# Altium schematic symbol library TPS73801.Schlib: 1 symbol
Pins are listed as number, name and electrical type; pins without a type are passive.

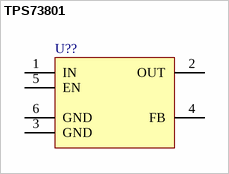
[diagram p0: symbol TPS73801]

## TPS73801
designator U??
pins: 1 IN, 2 OUT, 3 GND , 4 FB, 5 EN , 6 GND